# Altium schematic symbol library 5V_ESD_Littlefuse_SP1212-01ETG_30kV.SchLib: 1 symbol
Pins are listed as number, name and electrical type; pins without a type are passive.

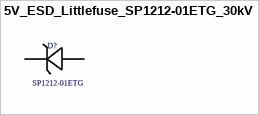
[diagram p0: symbol 5V_ESD_Littlefuse_SP1212-01ETG_30kV]

## 5V_ESD_Littlefuse_SP1212-01ETG_30kV
designator D?  Series: SP1212-01ETG  (hidden comment: 5V_ESD_Littlefuse_SP1212-01ETG_30kV)
ESD Suppressors / TVS Diodes 5V 12A 30KV UNI-DIR; Supplier 1: Mouser; Supplier Part Number 1: 576-SP1212-01ETG
footprint 5V_ESD_Littlefuse_SP1212-01ETG_30kV
pins: 1, 2